# Altium footprint library PASSIVE_SMD.PCBLIB: 249 footprints (part 7 of 16)
Each footprint in its own frame and in the unit in brackets; x right, y up, seen from the top. Pads: shape width x height; smd on the part's side, far side on the other; paste and mask are expansions set on the pad; w line width, h text height; cw(c..) or ccw(c..) is an arc to the next point about the centre after c.
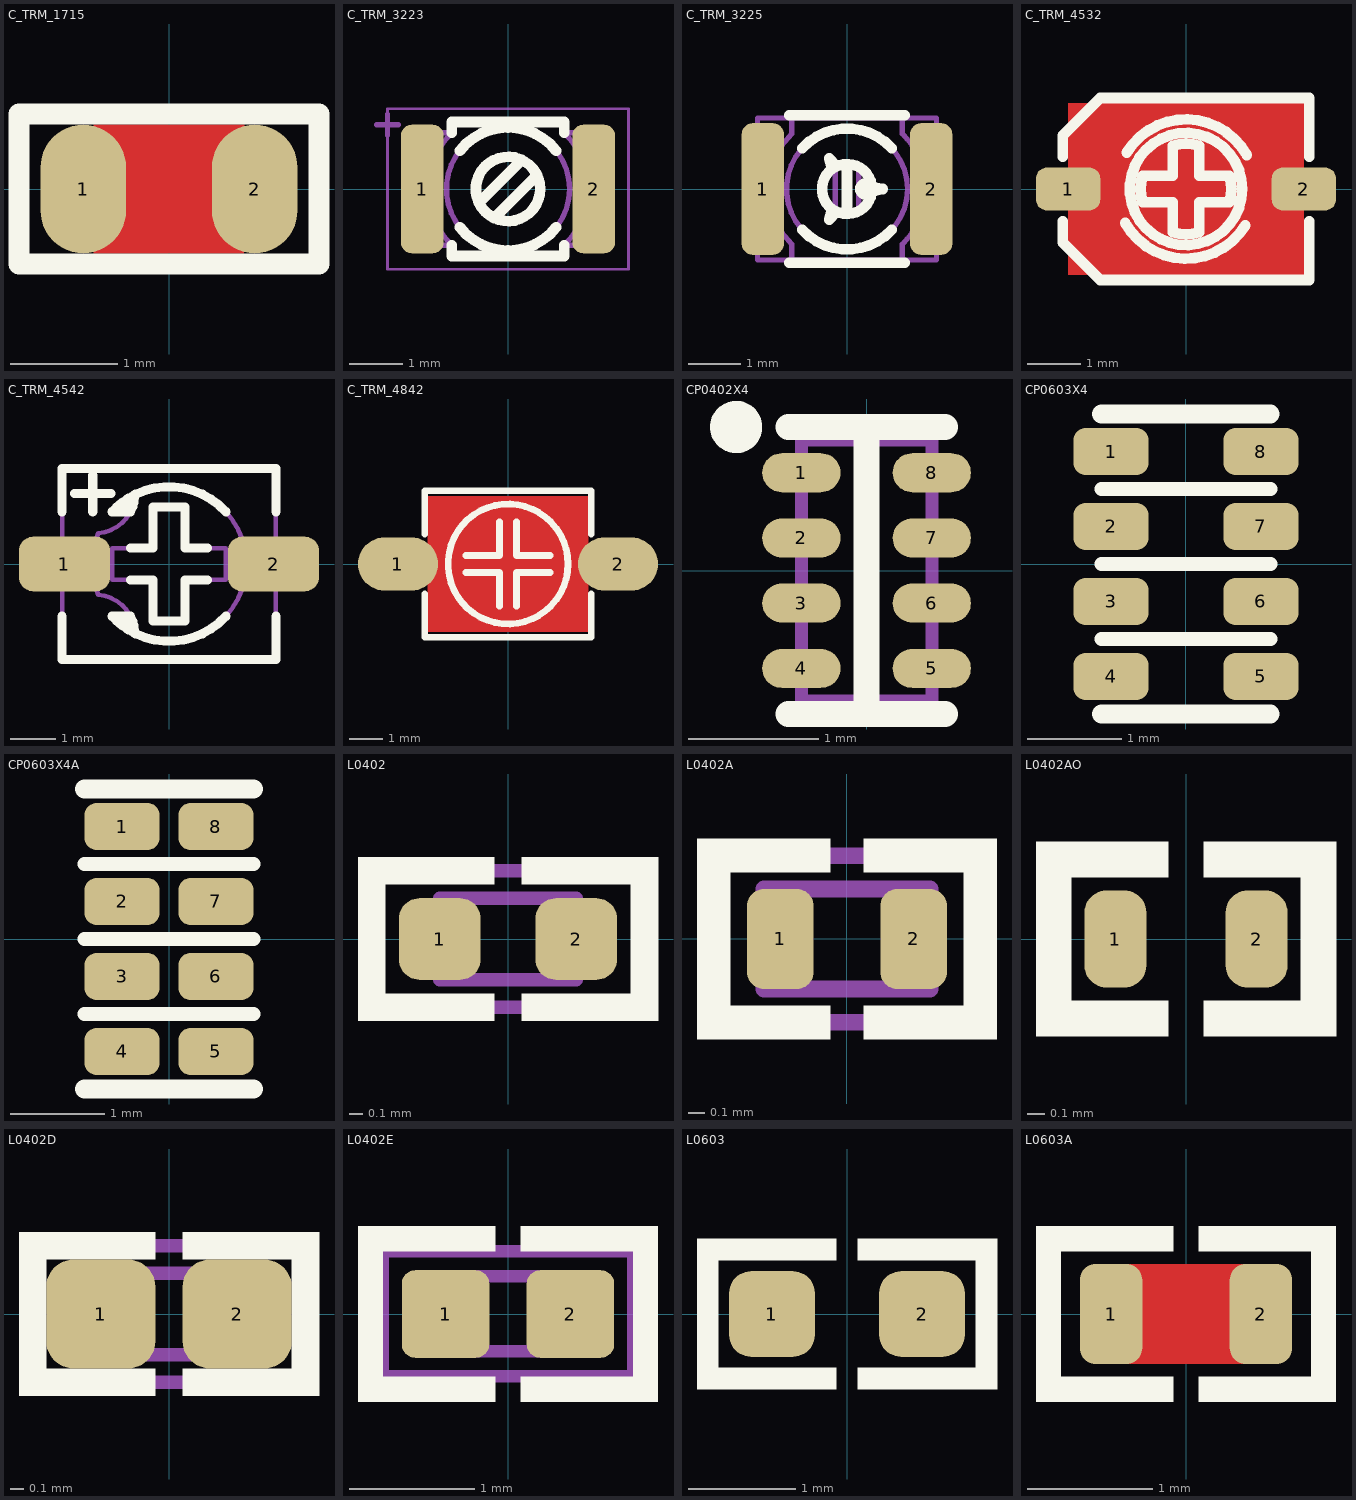
[diagram p6: the footprints below, top view; thin cyan lines are the x and y axes]

## C_TRM_1715 [mm] "Cap, Trimmer TZR1 1.7mmX1.5mm"
pads (2):
  oval 0.8x1.2 smd mask+0.075: 1(-0.8,0) 2(0.8,0)
Top Layer:
  pour cut-out: -0.7,0.6 0.7,0.6 0.7,-0.6 -0.7,-0.6
Top Overlay:
  lines w0.2: -1.4,-0.7 1.4,-0.7 1.4,0.7 -1.4,0.7 -1.4,-0.7
3D body "User Library-TZR1.STEP": height 1, standoff -0.01, extent -0.864,-0.75 0.85,0.75

## C_TRM_3223 [mm] "Cap, Trimmer TZV2 2.3mmX3.2mm"
height 1.45
pads (2):
  rrect50% 0.8x2.4 smd: 1(-1.6,0) 2(1.6,0)
Top Overlay:
  circle w0.2: c0,0 r0.6
  lines w0.2: -1.05,-1.05 -1.05,-1.25 1.05,-1.25 1.05,-1.05 ; -1.05,1.05 -1.05,1.25 1.05,1.25 1.05,1.05 ; -0.9,-0.716 ccw(c0,0) 0.9,-0.716 ; -0.9,0.716 cw(c0,0) 0.9,0.716 ; -0.541,-0.259 0.259,0.541 ; -0.259,-0.541 0.541,0.259
Mechanical 13:
  circle w0.1: c0,0 r0.6
  circle w0.1: c0,0 r1.15
  lines w0.1: -2.45,1.2 -2.25,1.2 ; -2.25,1 -2.25,1.2 ; -2.25,1.4 -2.25,1.2 ; -2.05,1.2 -2.25,1.2 ; -1.4,-1.05 -1.4,1.05 ; -0.541,-0.258 0.259,0.542 ; -0.258,-0.541 0.542,0.259 ; 1.3,-1.05 1.3,-0.717 ; 1.3,0.718 1.3,1.05 ; 1.6,-0.55 1.6,-1.05 1.05,-1.05 ; 1.6,0.55 1.6,1.05 1.05,1.05 ; -1.05,-1.05 cw(c0,0) -1.309,-0.7 -1.309,0.7 cw(c0,0) -1.05,1.05 ; -1.05,-1.05 -1.7,-1.05 -1.7,1.05 -1.05,1.05 ; -1.05,-1.05 -1.05,-1.25 1.05,-1.25 1.05,-1.05 ; -1.05,1.05 -1.05,1.25 1.05,1.25 1.05,1.05 ; 1.05,-1.05 ccw(c0,0) 1.31,-0.7 1.31,-0.55 1.7,-0.55 1.7,0.55 1.31,0.55 1.31,0.7 ccw(c0,0) 1.05,1.05
Mechanical 15:
  lines w0.05: -2.25,-1.5 -2.25,1.5 2.25,1.5 2.25,-1.5 -2.25,-1.5
3D body "CAPV_MURATA_TZV2.stp": height 1.45, standoff 0, extent -1.7,-1.25 1.7,1.25

## C_TRM_3225 [mm] "Cap, Trimmer TZY2 2.5mmX3.2mm"
height 1.25
pads (2):
  rrect50% 0.8x2.5 smd: 1(-1.6,0) 2(1.6,0)
Top Overlay:
  circle w0.2: c0,0 r0.475
  circle w0.2: c0.35,0 r0.1
  lines w0.2: -1.1,-1.4 1.1,-1.4 ; -1.1,1.4 1.1,1.4 ; -0.85,-0.775 ccw(c0,0) 0.85,-0.775 ; -0.85,0.775 cw(c0,0) 0.85,0.775 ; -0.279,-0.384 -0.337,-0.585 -0.193,-0.434 ; -0.279,0.384 -0.337,0.585 -0.193,0.434 ; 0,-0.418 0,0.418 ; 0.472,-0.05 0.675,0 0.472,0.05
Mechanical 13:
  circle w0.1: c0,0 r0.475
  circle w0.1: c0,0 r1.15
  circle w0.1: c0.35,0 r0.1
  lines w0.1: -1.7,-1.15 -1.4,-1.15 -1.4,-0.495 ; -1.7,1.15 -1.4,1.15 -1.4,0.495 ; -1.05,-1.35 -1.05,-1.05 cw(c0,0) -1.05,1.05 -1.05,1.35 ; -0.279,-0.384 -0.337,-0.584 -0.193,-0.434 ; -0.279,0.384 -0.337,0.585 -0.193,0.434 ; -0.225,-0.418 -0.225,0.418 ; 0.225,-0.418 0.225,0.418 ; 0.472,-0.05 0.675,0 0.472,0.05 ; 1.05,-1.35 1.05,-1.05 ccw(c0,0) 1.31,-0.7 1.31,-0.55 1.7,-0.55 ; 1.05,1.15 1.05,1.05 ; 1.05,1.35 1.05,1.05 ; 1.3,-0.718 1.3,-1.15 1.6,-1.15 1.6,-0.55 ; 1.3,0.718 1.3,1.15 1.6,1.15 1.6,0.55 ; 1.7,0.55 1.31,0.55 1.31,0.7 ccw(c0,0) 1.05,1.05 ; -1.7,-1.35 1.7,-1.35 1.7,1.35 -1.7,1.35 -1.7,-1.35
3D body "CAPV_MURATA_TZY2.stp": height 1.25, standoff 0, extent -1.7,-1.35 1.7,1.35

## C_TRM_4532 [mm] "Cap, Trimmer TZC3 4.5X3.2mm, JOHANSON 9343"
pads (2):
  rrect50% 1.2x0.8 smd: 1(-2.2,0) 2(2.2,0)
Top Layer:
  pour cut-out: -2.2,1.6 2.2,1.6 2.2,-1.6 -2.2,-1.6
Top Overlay:
  circle w0.2: c0,0 r1.047
  lines w0.2: -2.3,-0.6 -2.3,-1 -1.6,-1.7 2.3,-1.7 2.3,-0.6 ; -2.3,0.6 -2.3,1 -1.6,1.7 2.3,1.7 2.3,0.6 ; -1.134,-0.635 ccw(c0,0) 1.108,-0.68 ; -1.108,0.68 cw(c0,0) 1.134,0.635 ; -0.81,-0.25 cw(c0,0) -0.81,0.25 -0.25,0.25 -0.25,0.81 cw(c0,0) 0.25,0.81 0.25,0.25 0.81,0.25 cw(c0,0) 0.81,-0.25 0.25,-0.25 0.25,-0.81 cw(c0,0) -0.25,-0.81 -0.25,-0.25 -0.81,-0.25
3D body "CAPV_JOHANSON_9343.stp": height 1.78, standoff 0, extent -2.245,-1.587 2.245,1.588

## C_TRM_4542 [mm] "Cap, Trimmer TZB4 4.5X4.2mm"
height 3.2
pads (2):
  rrect50% 2x1.2 smd: 1(-2.3,0) 2(2.3,0)
Top Overlay:
  lines w0.2: -2.35,-1.15 -2.35,-2.1 2.35,-2.1 2.35,-1.15 ; -2.35,1.15 -2.35,2.1 2.35,2.1 2.35,1.15 ; -2.077,1.55 -1.277,1.55 ; -1.677,1.15 -1.677,1.95 ; -1.152,-1.25 -0.804,-1.25 ; -1.152,1.25 -0.804,1.25 ; -1.033,-1.35 -0.775,-1.35 ; -1.033,1.35 -0.775,1.35 ; -0.887,-1.45 -0.759,-1.45 ; -0.887,1.45 -0.759,1.45 ; -0.85,-0.35 -0.35,-0.35 -0.35,-1.25 0.35,-1.25 0.35,-0.35 0.85,-0.35 ; -0.85,0.35 -0.35,0.35 -0.35,1.25 0.35,1.25 0.35,0.35 0.85,0.35 ; -0.754,-1.523 ccw(c-1.615,-1.539) -0.847,-1.15 -1.252,-1.15 ccw(c0,0) 1.252,-1.15 ; -0.754,1.523 cw(c-1.615,1.539) -0.847,1.15 -1.252,1.15 cw(c0,0) 1.252,1.15
Mechanical 13:
  lines w0.1: -2.077,1.55 -1.277,1.55 ; -1.677,1.15 -1.677,1.95 ; -2.35,-2.1 2.35,-2.1 2.35,2.1 -2.35,2.1 -2.35,-2.1 ; -1.558,-0.681 cw(c0.062,0) -1.558,0.681 ccw(c-1.615,1.539) -0.754,1.524 cw(c0,0) -0.754,-1.523 ccw(c-1.615,-1.539) -1.558,-0.681 ; -1.25,-0.35 -0.35,-0.35 -0.35,-1.25 0.35,-1.25 0.35,-0.35 1.25,-0.35 1.25,0.35 0.35,0.35 0.35,1.25 -0.35,1.25 -0.35,0.35 -1.25,0.35 -1.25,-0.35
3D body "CAPV_MURATA_TZB4_TYPE A.stp": height 3.2, standoff 0, extent -2.5,-2.1 2.5,2.1

## C_TRM_4842 [mm] "Cap, Trimmer SMD 4.8x4.2mm"
pads (2):
  oval 2.4x1.6 smd: 1(-3.3,0) 2(3.3,0)
Top Layer:
  pour cut-out: -2.413,2.032 2.413,2.032 2.413,-2.032 -2.413,-2.032
Top Overlay:
  circle w0.2: c0,0 r1.8
  lines w0.2: -2.5,-0.9 -2.5,-2.2 2.5,-2.2 2.5,-0.9 ; -2.5,0.9 -2.5,2.2 2.5,2.2 2.5,0.9 ; -1.27,-0.254 -0.254,-0.254 -0.254,-1.27 ; -1.27,0.254 -0.254,0.254 -0.254,1.27 ; 0.254,-1.27 0.254,-0.254 1.27,-0.254 ; 0.254,1.27 0.254,0.254 1.27,0.254
3D body "User Library-trimmer.step": height 3.25, standoff 0, extent -3.523,-2.1 3.523,2.1

## CP0402X4 [mm] "Capacitor Network 0508, 0402X4, 1.3x2.0mm"
height 0.4
pads (8):
  oval 0.6x0.3 smd paste-0.05 mask+0.05: 1(-0.5,0.75) 2(-0.5,0.25) 3(-0.5,-0.25) 4(-0.5,-0.75) 5(0.5,-0.75) 6(0.5,-0.25) 7(0.5,0.25) 8(0.5,0.75)
Top Overlay:
  circle w0.2: c-1,1.1 r0.1
  lines w0.2: -0.6,-1.1 0.6,-1.1 ; -0.6,1.1 0.6,1.1 ; 0,-1.1 0,1.1
Mechanical 13:
  lines w0.1: -0.5,-1 0.5,-1 0.5,1 -0.5,1 -0.5,-1
3D body "cpack0508.step": height 0.65, standoff 0, extent -0.65,-1 0.65,1

## CP0603X4 [mm] "Capacitor Network 0612, 0603X4, 1.6x3.2mm"
pads (8):
  rrect50% 0.8x0.5 smd paste-0.05 mask+0.05: 1(-0.8,1.2) 2(-0.8,0.4) 3(-0.8,-0.4) 4(-0.8,-1.2) 5(0.8,-1.2) 6(0.8,-0.4) 7(0.8,0.4) 8(0.8,1.2)
Top Overlay:
  lines w0.15: -0.9,-0.8 0.9,-0.8 ; -0.9,0 0.9,0 ; -0.9,0.8 0.9,0.8
  lines w0.2: -0.9,-1.6 0.9,-1.6 ; -0.9,1.6 0.9,1.6
3D body "User Library-Cap_0612_ARRAY.STEP": height 0.77, standoff 0.02, extent -0.81,-1.6 0.81,1.6

## CP0603X4A [mm] "Capacitor Network 0612, 0603X4, 1.6x3.2mm"
pads (8):
  rrect50% 0.8x0.5 smd paste-0.05 mask+0.05: 1(-0.5,1.2) 2(-0.5,0.4) 3(-0.5,-0.4) 4(-0.5,-1.2) 5(0.5,-1.2) 6(0.5,-0.4) 7(0.5,0.4) 8(0.5,1.2)
Top Overlay:
  lines w0.15: -0.9,-0.8 0.9,-0.8 ; -0.9,0 0.9,0 ; -0.9,0.8 0.9,0.8
  lines w0.2: -0.9,-1.6 0.9,-1.6 ; -0.9,1.6 0.9,1.6
3D body "User Library-Cap_0612_ARRAY.STEP": height 0.72, standoff -0.03, extent -0.81,-1.6 0.81,1.6

## L0402 [mm] "INDUCTOR, FERRITE BEAD, 0402, 1.0X0.5mm"
height 0.4
pads (2):
  rrect50% 0.6x0.6 smd paste-1 mask+0.05: 1(-0.5,0) 2(0.5,0)
Top Overlay:
  region: -0.1,-0.4 -0.1,-0.6 -1.1,-0.6 -1.1,-0.4
  region: -0.1,0.4 -0.1,0.6 -1.1,0.6 -1.1,0.4
  region: -1.1,0.6 -0.9,0.6 -0.9,-0.6 -1.1,-0.6
  region: 1.1,0.6 0.9,0.6 0.9,-0.6 1.1,-0.6
  region: 0.1,0.4 0.1,0.6 1.1,0.6 1.1,0.4
  region: 0.1,-0.4 0.1,-0.6 1.1,-0.6 1.1,-0.4
Top Paste:
  region: -0.65,0.25 -0.4,0.25 -0.25,0 -0.4,-0.25 -0.65,-0.25 -0.67,-0.25 -0.707,-0.235 -0.735,-0.207 -0.75,-0.17 -0.75,-0.15 -0.75,0.151 -0.75,0.171 -0.735,0.207 -0.706,0.235 -0.67,0.25
  region: 0.65,0.25 0.4,0.25 0.25,0 0.4,-0.25 0.65,-0.25 0.67,-0.25 0.707,-0.235 0.735,-0.207 0.75,-0.17 0.75,-0.15 0.75,0.151 0.75,0.171 0.735,0.207 0.706,0.235 0.67,0.25
Mechanical 13:
  lines w0.1: -0.5,-0.3 -0.5,0.3 0.5,0.3 0.5,-0.3 -0.5,-0.3
Mechanical 15:
  lines w0.1: -1,-0.5 1,-0.5 1,0.5 -1,0.5 -1,-0.5
3D body "User Library-Chip Inductor0402.step": height 0.6, standoff 0, extent -0.5,-0.25 0.5,0.25

## L0402A [mm] "INDUCTOR, FERRITE BEAD, 0402, 1.0X0.5mm"
height 0.4
pads (2):
  rrect50% 0.4x0.6 smd mask+0.05: 1(-0.4,0) 2(0.4,0)
Top Overlay:
  region: -0.1,-0.4 -0.1,-0.6 -0.9,-0.6 -0.9,-0.4
  region: -0.1,0.4 -0.1,0.6 -0.9,0.6 -0.9,0.4
  region: -0.9,0.6 -0.7,0.6 -0.7,-0.6 -0.9,-0.6
  region: 0.9,0.6 0.7,0.6 0.7,-0.6 0.9,-0.6
  region: 0.1,0.4 0.1,0.6 0.9,0.6 0.9,0.4
  region: 0.1,-0.4 0.1,-0.6 0.9,-0.6 0.9,-0.4
Mechanical 13:
  lines w0.1: -0.5,-0.3 0.5,-0.3 0.5,0.3 -0.5,0.3 -0.5,-0.3
Mechanical 15:
  lines w0.1: -0.8,-0.5 -0.8,0.5 0.8,0.5 0.8,-0.5 -0.8,-0.5
3D body "User Library-Chip Inductor0402.step": height 0.6, standoff 0, extent -0.5,-0.25 0.5,0.25

## L0402AO [mm] "INDUCTOR, FERRITE BEAD, 1.0X0.5mm, 0402, for PCBA optimized"
height 0.4
pads (2):
  rrect70% 0.35x0.55 smd mask+0.05: 1(-0.4,0) 2(0.4,0)
Top Overlay:
  region: 0.1,0.35 0.1,0.55 0.85,0.55 0.85,0.35
  region: 0.85,0.55 0.65,0.55 0.65,-0.55 0.85,-0.55
  region: 0.1,-0.35 0.1,-0.55 0.85,-0.55 0.85,-0.35
  region: -0.1,0.35 -0.1,0.55 -0.85,0.55 -0.85,0.35
  region: -0.85,0.55 -0.65,0.55 -0.65,-0.55 -0.85,-0.55
  region: -0.1,-0.35 -0.1,-0.55 -0.85,-0.55 -0.85,-0.35
3D body "User Library-Chip Inductor0402.step": height 0.6, standoff 0, extent -0.5,-0.25 0.5,0.25

## L0402D [mm] "INDUCTOR, FERRITE BEAD, 0402, 1.0X0.5mm, SMD (SolderMask Defined)"
height 0.4
pads (2):
  rrect50% 0.8x0.8 smd paste-2 mask-0.1: 1(-0.5,0) 2(0.5,0)
Top Overlay:
  region: -0.1,-0.4 -0.1,-0.6 -1.1,-0.6 -1.1,-0.4
  region: -0.1,0.4 -0.1,0.6 -1.1,0.6 -1.1,0.4
  region: -1.1,0.6 -0.9,0.6 -0.9,-0.6 -1.1,-0.6
  region: 1.1,0.6 0.9,0.6 0.9,-0.6 1.1,-0.6
  region: 0.1,0.4 0.1,0.6 1.1,0.6 1.1,0.4
  region: 0.1,-0.4 0.1,-0.6 1.1,-0.6 1.1,-0.4
Top Paste:
  region: 0.65,0.25 0.4,0.25 0.25,0 0.4,-0.25 0.65,-0.25 0.67,-0.25 0.707,-0.235 0.735,-0.207 0.75,-0.17 0.75,-0.15 0.75,0.151 0.75,0.171 0.735,0.207 0.706,0.235 0.67,0.25
  region: -0.65,0.25 -0.4,0.25 -0.25,0 -0.4,-0.25 -0.65,-0.25 -0.67,-0.25 -0.707,-0.235 -0.735,-0.207 -0.75,-0.17 -0.75,-0.15 -0.75,0.151 -0.75,0.171 -0.735,0.207 -0.706,0.235 -0.67,0.25
Mechanical 13:
  lines w0.1: -0.5,-0.3 -0.5,0.3 0.5,0.3 0.5,-0.3 -0.5,-0.3
Mechanical 15:
  lines w0.1: -1,-0.5 -1,0.5 1,0.5 1,-0.5 -1,-0.5
3D body "User Library-Chip Inductor0402.step": height 0.6, standoff 0, extent -0.5,-0.25 0.5,0.25

## L0402E [mm] "INDUCTOR, FERRITE BEAD, 0402, 1.0X0.5mm, EXPANDED PAD"
height 0.4
pads (2):
  rrect30% 0.7x0.7 smd paste-2 mask+0.075: 1(-0.5,0) 2(0.5,0)
Top Overlay:
  region: 1.2,0.7 1,0.7 1,-0.7 1.2,-0.7
  region: 0.1,0.5 0.1,0.7 1.2,0.7 1.2,0.5
  region: 0.1,-0.5 0.1,-0.7 1.2,-0.7 1.2,-0.5
  region: -0.1,-0.5 -0.1,-0.7 -1.2,-0.7 -1.2,-0.5
  region: -0.1,0.5 -0.1,0.7 -1.2,0.7 -1.2,0.5
  region: -1.2,0.7 -1,0.7 -1,-0.7 -1.2,-0.7
Top Paste:
  region: 0.4,-0.3 0.2,0 0.4,0.3 0.7,0.3 0.72,0.3 0.757,0.285 0.785,0.257 0.8,0.22 0.8,0.2 0.8,-0.2 0.8,-0.22 0.785,-0.257 0.757,-0.285 0.72,-0.3 0.7,-0.3
  region: -0.4,-0.3 -0.2,0 -0.4,0.3 -0.7,0.3 -0.72,0.3 -0.757,0.285 -0.785,0.257 -0.8,0.22 -0.8,0.2 -0.8,-0.2 -0.8,-0.22 -0.785,-0.257 -0.757,-0.285 -0.72,-0.3 -0.7,-0.3
Mechanical 13:
  lines w0.1: -0.5,-0.3 -0.5,0.3 0.5,0.3 0.5,-0.3 -0.5,-0.3
Mechanical 15:
  lines w0.1: -1,-0.5 -1,0.5 1,0.5 1,-0.5 -1,-0.5
3D body "User Library-Chip Inductor0402.step": height 0.6, standoff 0, extent -0.5,-0.25 0.5,0.25

## L0603 [mm] "INDUCTOR, FERRITE BEAD, 0603, 1.6X0.8mm"
height 0.6
pads (2):
  rrect50% 0.8x0.8 smd paste-5 mask+0.075: 1(-0.7,0) 2(0.7,0)
Top Overlay:
  region: -0.1,-0.5 -0.1,-0.7 -1.4,-0.7 -1.4,-0.5
  region: 0.1,-0.5 0.1,-0.7 1.4,-0.7 1.4,-0.5
  region: -0.1,0.5 -0.1,0.7 -1.4,0.7 -1.4,0.5
  region: -1.4,0.7 -1.2,0.7 -1.2,-0.7 -1.4,-0.7
  region: 1.4,0.7 1.2,0.7 1.2,-0.7 1.4,-0.7
  region: 0.1,0.5 0.1,0.7 1.4,0.7 1.4,0.5
Top Paste:
  region: -0.7,0.35 -0.63,0.35 -0.502,0.297 -0.403,0.198 -0.35,0.07 -0.35,0 -0.35,-0.07 -0.403,-0.198 -0.502,-0.297 -0.63,-0.35 -0.7,-0.35 -0.9,-0.35 -0.93,-0.35 -0.985,-0.327 -1.027,-0.285 -1.05,-0.23 -1.05,-0.2 -1.05,0.2 -1.05,0.23 -1.027,0.285 -0.985,0.327 -0.93,0.35 -0.9,0.35
  region: 0.7,0.35 0.63,0.35 0.502,0.297 0.403,0.198 0.35,0.07 0.35,0 0.35,-0.07 0.403,-0.198 0.502,-0.297 0.63,-0.35 0.7,-0.35 0.9,-0.35 0.93,-0.35 0.985,-0.327 1.027,-0.285 1.05,-0.23 1.05,-0.2 1.05,0.2 1.05,0.23 1.027,0.285 0.985,0.327 0.93,0.35 0.9,0.35
3D body "User Library-Chip Inductor0603.step": height 0.95, standoff 0, extent -0.8,-0.4 0.8,0.4

## L0603A [mm] "INDUCTOR, FERRITE BEAD, 0603, 1.6X0.8mm"
height 0.6
pads (2):
  rrect50% 0.5x0.8 smd mask+0.075: 1(-0.6,0) 2(0.6,0)
Top Layer:
  pour cut-out: -0.5,0.4 0.5,0.4 0.5,-0.4 -0.5,-0.4
Top Overlay:
  region: 1.2,0.7 1,0.7 1,-0.7 1.2,-0.7
  region: 0.1,0.5 0.1,0.7 1.2,0.7 1.2,0.5
  region: 0.1,-0.5 0.1,-0.7 1.2,-0.7 1.2,-0.5
  region: -0.1,-0.5 -0.1,-0.7 -1.2,-0.7 -1.2,-0.5
  region: -0.1,0.5 -0.1,0.7 -1.2,0.7 -1.2,0.5
  region: -1.2,0.7 -1,0.7 -1,-0.7 -1.2,-0.7
3D body "User Library-Chip Inductor0603.step": height 0.95, standoff 0, extent -0.8,-0.4 0.8,0.4